# Altium integrated library ZTT-16.00MX.IntLib: 1 symbol
Pins are listed as number, name and electrical type; pins without a type are passive.

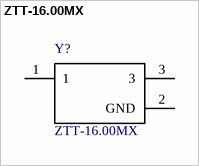
[diagram p0: symbol ZTT-16.00MX]

## ZTT-16.00MX
designator Y?
ZTT Series 16 MHz Â±0.5% Radial Ceramic Resonator; MF: ECS Inc.; Price: None; Package: Radial-2 ECS International; MP: ZTT-16.00MX; Availability: Unavailable; SnapEDA_Link: https://www.snapeda.com/parts/ZTT-16.00MX/ECS%20Inc./view-part/?ref=snap; Value: *
footprint *XTAL_ZTT-16.00MX
pins: 1, 2 GND (power), 3